# EAGLE library part CONNECTOR8_30DEG (library harrison)
8-pin connector turned 30 degrees
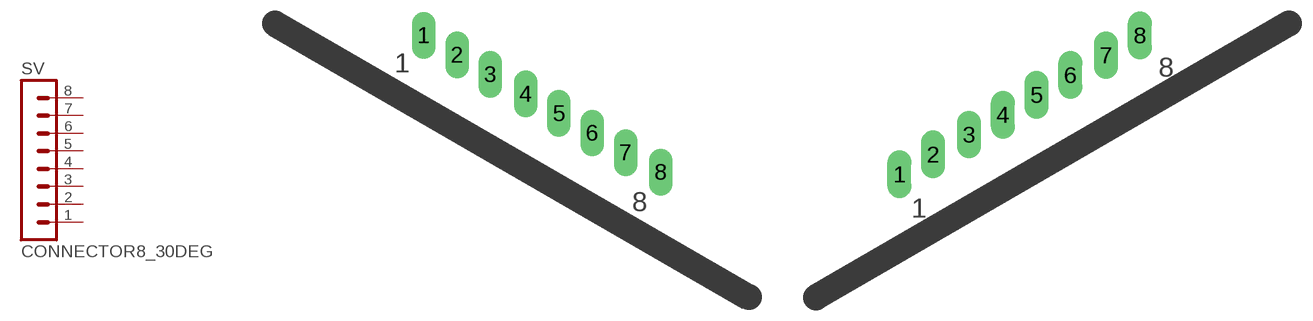
[diagram p7: symbol with the pads of CONNECTOR8_30LEFT; footprints CONNECTOR8_30LEFT, CONNECTOR8_30RIGHT]

Designator prefix SV

## CONNECTOR8_30DEGLEFT  [CONNECTOR8_30LEFT]
1  1  pas
2  2  pas
3  3  pas
4  4  pas
5  5  pas
6  6  pas
7  7  pas
8  8  pas

## CONNECTOR8_30DEGRIGHT  [CONNECTOR8_30RIGHT]
Pads as for CONNECTOR8_30LEFT

## Footprint CONNECTOR8_30LEFT (pad centres in mm)
drill 1.016 long: 1 -15.367,8.89; 2 -13.208,7.62; 3 -11.049,6.35; 4 -8.763,5.08; 5 -6.604,3.81; 6 -4.445,2.54; 7 -2.286,1.27; 8 0,0

## Footprint CONNECTOR8_30RIGHT (pad centres in mm)
drill 1.016 long: 1 0,0; 2 2.159,1.27; 3 4.445,2.54; 4 6.604,3.81; 5 8.763,5.08; 6 10.922,6.35; 7 13.208,7.62; 8 15.367,8.89